# EAGLE library part TEXAS-INSTRUMENTS_BY_ELEMENT14_BATCH_1_TXS0104ED (library CounterModule)
4-BIT BIDIRECTIONAL VOLTAGE-LEVEL TRANSLATOR FOR OPEN-DRAIN AND PUSH-PULL APPLICATIONS
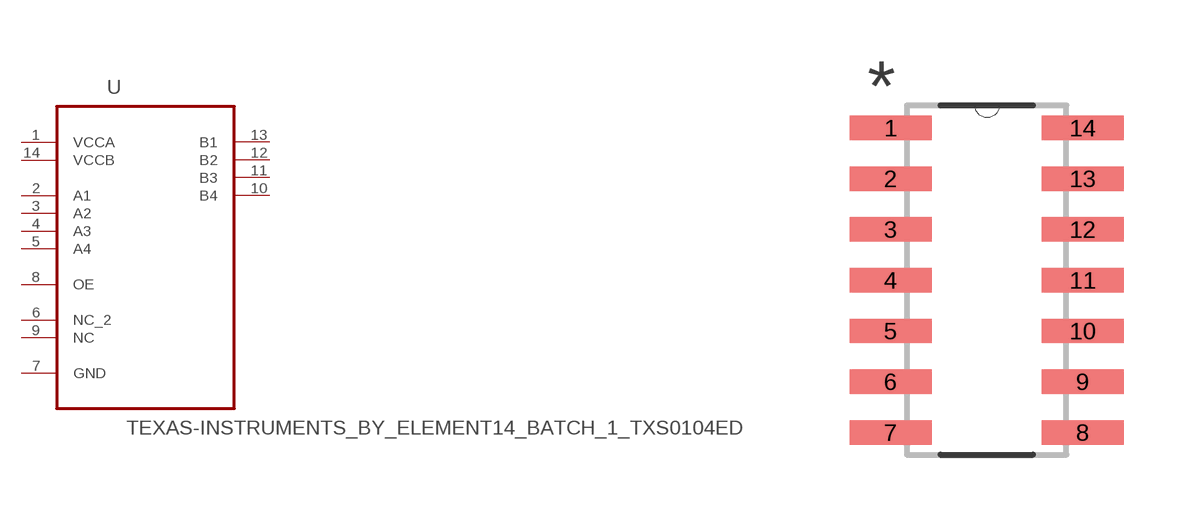
[diagram p3: symbol with the pads of TEXAS-INSTRUMENTS_BY_ELEMENT14_BATCH_1_SOIC127P600X175-14N; footprint TEXAS-INSTRUMENTS_BY_ELEMENT14_BATCH_1_SOIC127P600X175-14N]

Designator prefix U

## TEXAS-INSTRUMENTS_BY_ELEMENT14_BATCH_1_TXS0104ED (MPN: TXS0104ED; OC_FARNELL: 1607892; OC_NEWARK: 10M0686; PACKAGE: SOIC-14; SUPPLIER: TEXAS INSTRUMENTS)  [TEXAS-INSTRUMENTS_BY_ELEMENT14_BATCH_1_SOIC127P600X175-14N]
1  VCCA  pwr
2  A1  in
3  A2  in
4  A3  in
5  A4  in
6  NC_2  nc
7  GND  pas
8  OE  in
9  NC  nc
10  B4  out
11  B3  out
12  B2  out
13  B1  out
14  VCCB  pwr

## Footprint TEXAS-INSTRUMENTS_BY_ELEMENT14_BATCH_1_SOIC127P600X175-14N (pad centres in mm)
smd 2.057 x 0.61: 1 -4.801,7.62; 2 -4.801,6.35; 3 -4.801,5.08; 4 -4.801,3.81; 5 -4.801,2.54; 6 -4.801,1.27; 7 -4.801,0; 8 0,0; 9 0,1.27; 10 0,2.54; 11 0,3.81; 12 0,5.08; 13 0,6.35; 14 0,7.62